# Altium footprint library CH340G.PcbLib: 1 footprints
Each footprint in its own frame and in the unit in brackets; x right, y up, seen from the top. Pads: shape width x height; smd on the part's side, far side on the other; paste and mask are expansions set on the pad; w line width, h text height; cw(c..) or ccw(c..) is an arc to the next point about the centre after c.
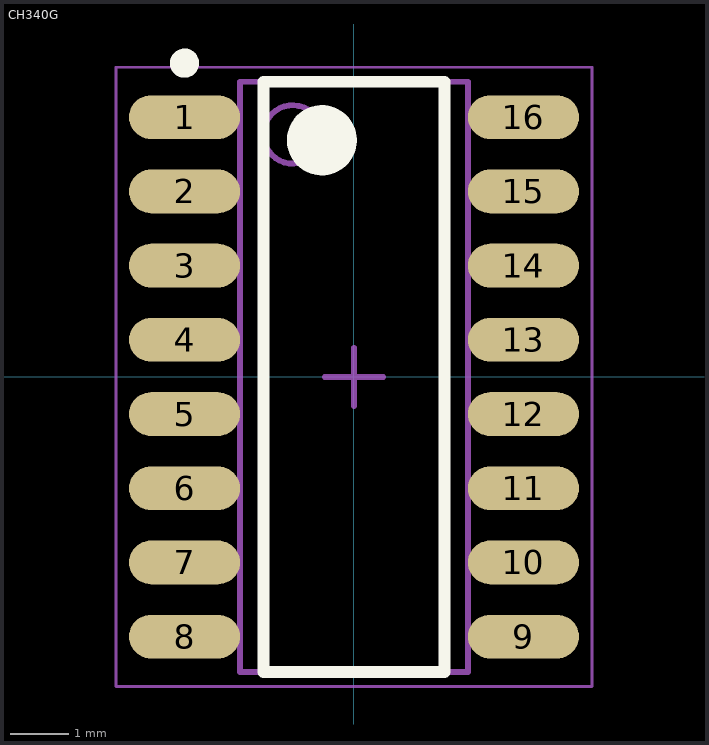
[diagram p0: the footprint, top view; thin cyan lines are the x and y axes]

## CH340G [mm] "TSOP, 16-Leads, Body 10,06x3,90mm, Pitch 1,27mm, IPC Medium Density"
height 1.6
pads (16):
  oval 1.9x0.75 smd: 1(-2.9,4.445) 2(-2.9,3.175) 3(-2.9,1.905) 4(-2.9,0.635) 5(-2.9,-0.635) 6(-2.9,-1.905) 7(-2.9,-3.175) 8(-2.9,-4.445) 9(2.9,-4.445) 10(2.9,-3.175) 11(2.9,-1.905) 12(2.9,-0.635) 13(2.9,0.635) 14(2.9,1.905) 15(2.9,3.175) 16(2.9,4.445)
Top Overlay:
  circle w0.6: c-0.55,4.05 r0.3
  circle w0.25: c-2.9,5.37 r0.125
  lines w0.2: -1.55,-5.05 1.55,-5.05 1.55,5.05 -1.55,5.05 -1.55,-5.05
Mechanical 13:
  circle w0.1: c-1.05,4.15 r0.5
  lines w0.1: -1.95,-5.05 1.95,-5.05 1.95,5.05 -1.95,5.05 -1.95,-5.05
Mechanical 15:
  lines w0.05: -4.075,-5.3 4.075,-5.3 4.075,5.3 -4.075,5.3 -4.075,-5.3
  lines w0.1: -0.5,0 0.5,0 ; 0,-0.5 0,0.5
3D body "TSOP127P680X160-16N.step": height 1.6, standoff 0, extent -3.41,-5.05 3.41,5.05